# Altium schematic symbol library LM7833.SchLib: 1 symbol
Pins are listed as number, name and electrical type; pins without a type are passive.

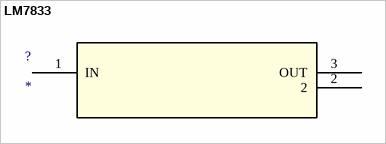
[diagram p0: symbol LM7833]

## LM7833
designator ?
Imported; Manufacturer_Part_Number: LM7833; Vendor: National Semiconductor; C: Copyright (C) 2015 Accelerated Designs. All rights reserved; Copyright: Copyright (C) 2015 Accelerated Designs. All rights reserved; RefDes: RefDes; Type: DEV; Value: Value
footprint TD03B
pins: 1 IN (power), 2, 3 OUT (power)